# Altium footprint library BMS Library.PcbLib: 2 footprints
Each footprint in its own frame and in the unit in brackets; x right, y up, seen from the top. Pads: shape width x height; smd on the part's side, far side on the other; paste and mask are expansions set on the pad; w line width, h text height; cw(c..) or ccw(c..) is an arc to the next point about the centre after c.
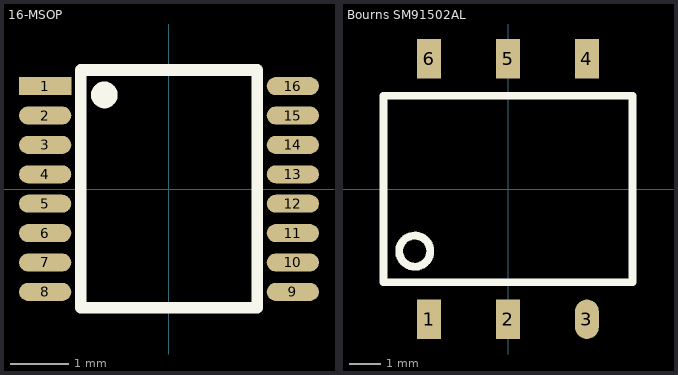
[diagram p0: the footprints below, top view; thin cyan lines are the x and y axes]

## 16-MSOP [mm]
pads (16):
  rect 0.889x0.305 smd: 1(-2.107,1.75)
  oval 0.889x0.305 smd: 2(-2.107,1.25) 3(-2.107,0.75) 4(-2.107,0.25) 5(-2.107,-0.25) 6(-2.107,-0.75) 7(-2.107,-1.25) 8(-2.107,-1.75) 9(2.107,-1.75) 10(2.107,-1.25) 11(2.107,-0.75) 12(2.107,-0.25) 13(2.107,0.25) 14(2.107,0.75) 15(2.107,1.25) 16(2.107,1.75)
Top Overlay:
  circle w0.254: c-1.1,1.6 r0.1
  lines w0.2: 1.5,-2.02 1.5,2.025 ; 1.5,-2.019 -1.5,-2.02 -1.5,2.025 1.5,2.025 ; 1.5,2.025 1.5,2.025

## Bourns SM91502AL [mm]
pads (6):
  rect 0.76x1.27 smd: 1(-2.54,-4.19) 2(0,-4.19) 4(2.54,4.19) 5(0,4.19) 6(-2.54,4.19)
  oval 0.76x1.27 smd: 3(2.54,-4.19)
Top Overlay:
  circle w0.254: c-3,-2 r0.5
  lines w0.254: -4,-3 -2,-3 2,-3 4,-3 4,3 -4,3 -4,-3